# Altium schematic symbol library TPS2814DR.SchLib: 1 symbol
Pins are listed as number, name and electrical type; pins without a type are passive.

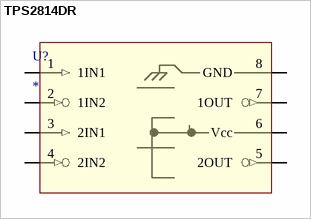
[diagram p0: symbol TPS2814DR]

## TPS2814DR
designator U?
pins: 1 1IN1 (in), 2 1IN2 (in), 3 2IN1 (in), 4 2IN2 (in), 5 2OUT (out), 6 Vcc, 7 1OUT (out), 8 GND